# Altium schematic symbol library PCA9548ADW.SchLib: 1 symbol
Pins are listed as number, name and electrical type; pins without a type are passive.

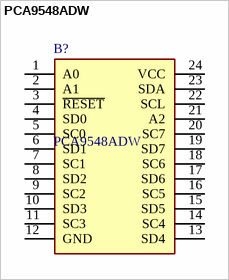
[diagram p0: symbol PCA9548ADW]

## PCA9548ADW
designator B?
8-CHANNEL I2C SWITCH WITH RESET; Manufacturer_Name: Texas Instruments; Geometry.Height: 2.65mm; Mouser Part Number: 595-PCA9548ADW; Mouser Price/Stock: https://www.mouser.co.uk/ProductDetail/Texas-Instruments/PCA9548ADW?qs=qRemG2J%252Bg%2FVvm%2FYCmfqZXA%3D%3D; Manufacturer_Part_Number: PCA9548ADW; Datasheet Link: http://www.ti.com/lit/gpn/PCA9548A
footprint SOIC127P1030X265-24N
pins: 1 A0, 2 A1, 3 ~{RESET}, 4 SD0, 5 SC0, 6 SD1, 7 SC1, 8 SD2, 9 SC2, 10 SD3, 11 SC3, 12 GND, 13 SD4, 14 SC4, 15 SD5, 16 SC5, 17 SD6, 18 SC6, 19 SD7, 20 SC7, 21 A2, 22 SCL, 23 SDA, 24 VCC